# Altium integrated library net_ties.IntLib: 1 symbol
Pins are listed as number, name and electrical type; pins without a type are passive.

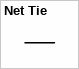
[diagram p0: symbol Net Tie]

## Net Tie
designator NT?  (value not drawn)  (net tie, no BOM)
Circuit Breaker; Solder: NO; Published: 24-Mar-1999; Revision: July-2002: Re-released for DXP Platform.; Publisher: Altium Limited
footprint NT_0.8mm
pins: 1, 2
2 alternate drawings of the same symbol